# EAGLE library part CNY74-4H (library mitya)
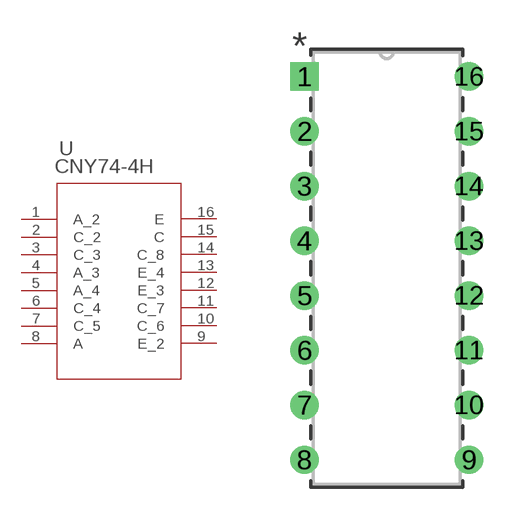
[diagram p1: symbol with the pads of DIP16_CNY74; footprint DIP16_CNY74]

Designator prefix U

## CNY74-4H (MANUFACTURER_PART_NUMBER: CNY744H; VENDOR: Vishay)  [DIP16_CNY74]
1  A_2  pas
2  C_2  pas
3  C_3  pas
4  A_3  pas
5  A_4  pas
6  C_4  pas
7  C_5  pas
8  A  pas
9  E_2  pas
10  C_6  pas
11  C_7  pas
12  E_3  pas
13  E_4  pas
14  C_8  pas
15  C  pas
16  E  pas

## Footprint DIP16_CNY74 (pad centres in mm)
drill 0.813 pad 1.321 square: 1 -7.62,17.78
drill 0.813 pad 1.321: 2 -7.62,15.24; 3 -7.62,12.7; 4 -7.62,10.16; 5 -7.62,7.62; 6 -7.62,5.08; 7 -7.62,2.54; 8 -7.62,0; 9 0,0; 10 0,2.54; 11 0,5.08; 12 0,7.62; 13 0,10.16; 14 0,12.7; 15 0,15.24; 16 0,17.78